# Altium schematic symbol library SCH - MCU - SI LABS - SI LABS EFM32WG280F128 100-PIN QFP 14X14.SchLib: 1 symbol
Pins are listed as number, name and electrical type; pins without a type are passive.

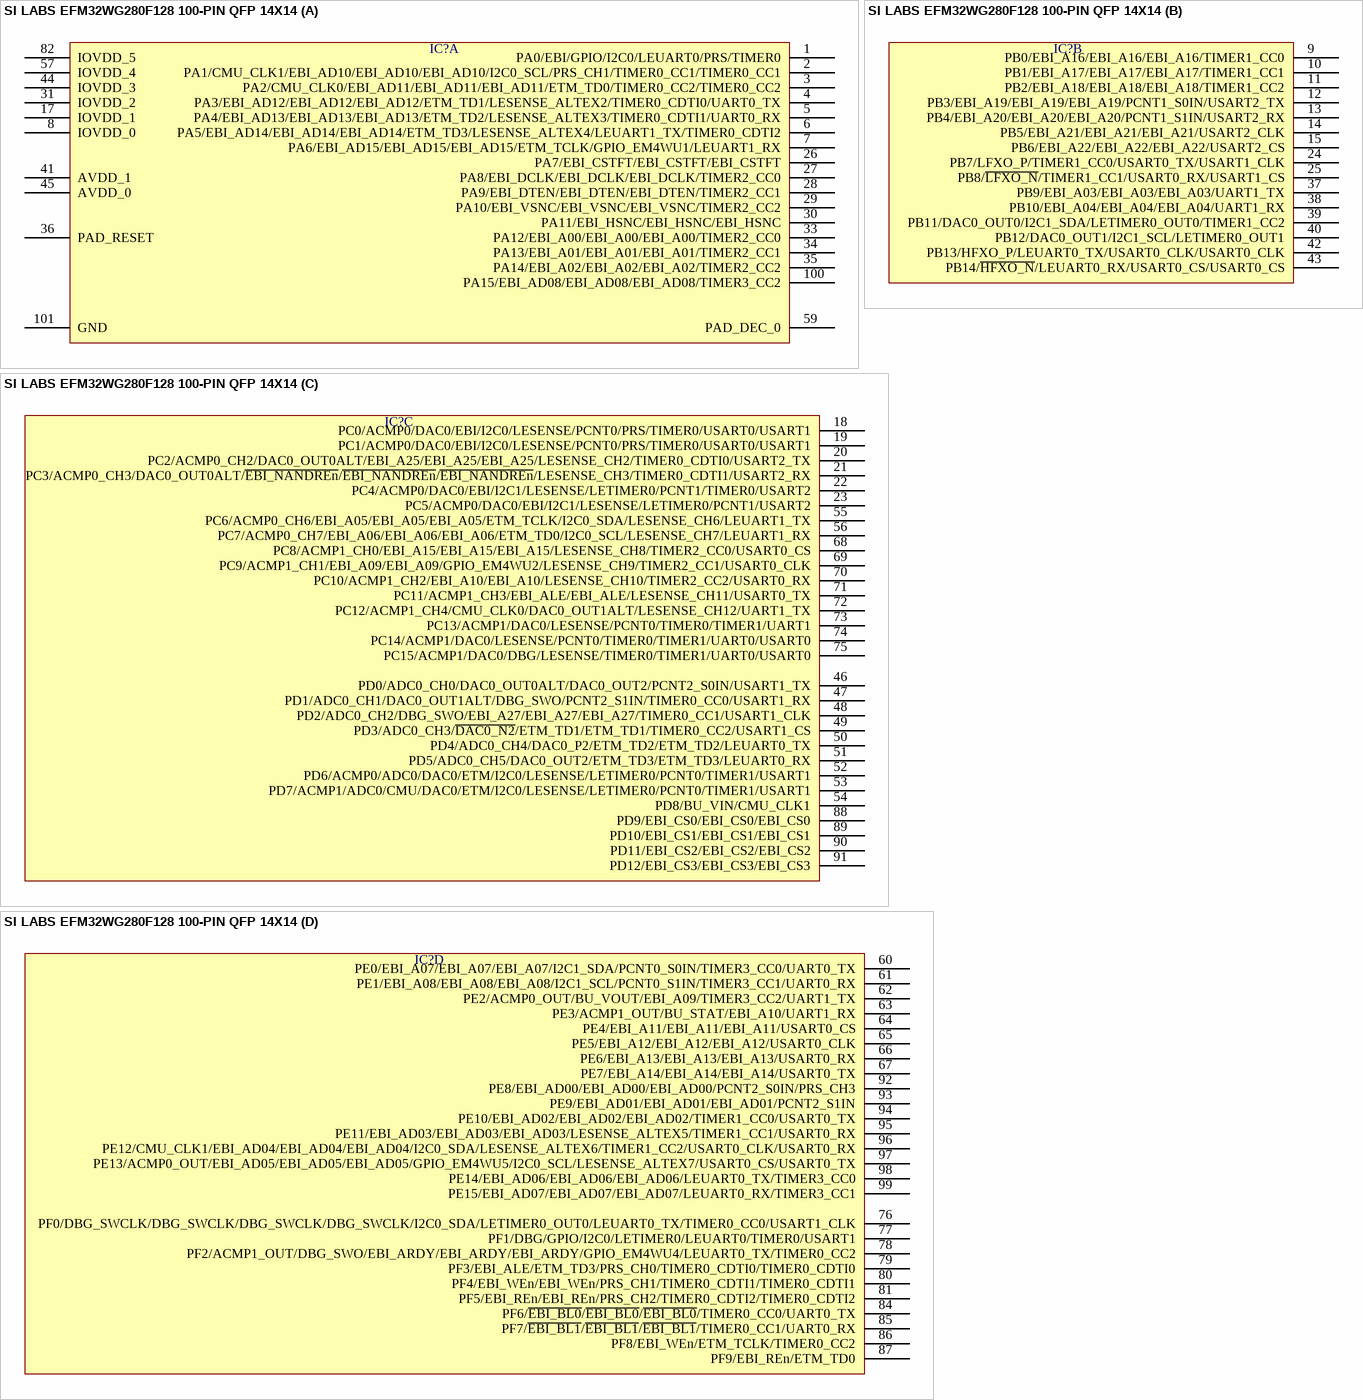
[diagram p0: symbol SI LABS EFM32WG280F128 100-PIN QFP 14X14]

## SI LABS EFM32WG280F128 100-PIN QFP 14X14
designator IC?  (value not drawn)
part A pins: 1 PA0/EBI/GPIO/I2C0/LEUART0/PRS/TIMER0, 2 PA1/CMU_CLK1/EBI_AD10/EBI_AD10/EBI_AD10/I2C0_SCL/PRS_CH1/TIMER0_CC1/TIMER0_CC1, 3 PA2/CMU_CLK0/EBI_AD11/EBI_AD11/EBI_AD11/ETM_TD0/TIMER0_CC2/TIMER0_CC2, 4 PA3/EBI_AD12/EBI_AD12/EBI_AD12/ETM_TD1/LESENSE_ALTEX2/TIMER0_CDTI0/UART0_TX, 5 PA4/EBI_AD13/EBI_AD13/EBI_AD13/ETM_TD2/LESENSE_ALTEX3/TIMER0_CDTI1/UART0_RX, 6 PA5/EBI_AD14/EBI_AD14/EBI_AD14/ETM_TD3/LESENSE_ALTEX4/LEUART1_TX/TIMER0_CDTI2, 7 PA6/EBI_AD15/EBI_AD15/EBI_AD15/ETM_TCLK/GPIO_EM4WU1/LEUART1_RX, 8 IOVDD_0, 17 IOVDD_1, 26 PA7/EBI_CSTFT/EBI_CSTFT/EBI_CSTFT, 27 PA8/EBI_DCLK/EBI_DCLK/EBI_DCLK/TIMER2_CC0, 28 PA9/EBI_DTEN/EBI_DTEN/EBI_DTEN/TIMER2_CC1, 29 PA10/EBI_VSNC/EBI_VSNC/EBI_VSNC/TIMER2_CC2, 30 PA11/EBI_HSNC/EBI_HSNC/EBI_HSNC, 31 IOVDD_2, 33 PA12/EBI_A00/EBI_A00/EBI_A00/TIMER2_CC0, 34 PA13/EBI_A01/EBI_A01/EBI_A01/TIMER2_CC1, 35 PA14/EBI_A02/EBI_A02/EBI_A02/TIMER2_CC2, 36 PAD_RESET, 41 AVDD_1, 44 IOVDD_3, 45 AVDD_0, 57 IOVDD_4, 59 PAD_DEC_0, 82 IOVDD_5, 100 PA15/EBI_AD08/EBI_AD08/EBI_AD08/TIMER3_CC2, 101 GND
part B pins: 9 PB0/EBI_A16/EBI_A16/EBI_A16/TIMER1_CC0, 10 PB1/EBI_A17/EBI_A17/EBI_A17/TIMER1_CC1, 11 PB2/EBI_A18/EBI_A18/EBI_A18/TIMER1_CC2, 12 PB3/EBI_A19/EBI_A19/EBI_A19/PCNT1_S0IN/USART2_TX, 13 PB4/EBI_A20/EBI_A20/EBI_A20/PCNT1_S1IN/USART2_RX, 14 PB5/EBI_A21/EBI_A21/EBI_A21/USART2_CLK, 15 PB6/EBI_A22/EBI_A22/EBI_A22/USART2_CS, 24 PB7/LFXO_P/TIMER1_CC0/USART0_TX/USART1_CLK, 25 PB8/~{LFXO_N}/TIMER1_CC1/USART0_RX/USART1_CS, 37 PB9/EBI_A03/EBI_A03/EBI_A03/UART1_TX, 38 PB10/EBI_A04/EBI_A04/EBI_A04/UART1_RX, 39 PB11/DAC0_OUT0/I2C1_SDA/LETIMER0_OUT0/TIMER1_CC2, 40 PB12/DAC0_OUT1/I2C1_SCL/LETIMER0_OUT1, 42 PB13/HFXO_P/LEUART0_TX/USART0_CLK/USART0_CLK, 43 PB14/~{HFXO_N}/LEUART0_RX/USART0_CS/USART0_CS
part C pins: 18 PC0/ACMP0/DAC0/EBI/I2C0/LESENSE/PCNT0/PRS/TIMER0/USART0/USART1, 19 PC1/ACMP0/DAC0/EBI/I2C0/LESENSE/PCNT0/PRS/TIMER0/USART0/USART1, 20 PC2/ACMP0_CH2/DAC0_OUT0ALT/EBI_A25/EBI_A25/EBI_A25/LESENSE_CH2/TIMER0_CDTI0/USART2_TX, 21 PC3/ACMP0_CH3/DAC0_OUT0ALT/~{EBI_NANDREn}/~{EBI_NANDREn}/~{EBI_NANDREn}/LESENSE_CH3/TIMER0_CDTI1/USART2_RX, 22 PC4/ACMP0/DAC0/EBI/I2C1/LESENSE/LETIMER0/PCNT1/TIMER0/USART2, 23 PC5/ACMP0/DAC0/EBI/I2C1/LESENSE/LETIMER0/PCNT1/USART2, 46 PD0/ADC0_CH0/DAC0_OUT0ALT/DAC0_OUT2/PCNT2_S0IN/USART1_TX, 47 PD1/ADC0_CH1/DAC0_OUT1ALT/DBG_SWO/PCNT2_S1IN/TIMER0_CC0/USART1_RX, 48 PD2/ADC0_CH2/DBG_SWO/EBI_A27/EBI_A27/EBI_A27/TIMER0_CC1/USART1_CLK, 49 PD3/ADC0_CH3/~{DAC0_N2}/ETM_TD1/ETM_TD1/TIMER0_CC2/USART1_CS, 50 PD4/ADC0_CH4/DAC0_P2/ETM_TD2/ETM_TD2/LEUART0_TX, 51 PD5/ADC0_CH5/DAC0_OUT2/ETM_TD3/ETM_TD3/LEUART0_RX, 52 PD6/ACMP0/ADC0/DAC0/ETM/I2C0/LESENSE/LETIMER0/PCNT0/TIMER1/USART1, 53 PD7/ACMP1/ADC0/CMU/DAC0/ETM/I2C0/LESENSE/LETIMER0/PCNT0/TIMER1/USART1, 54 PD8/BU_VIN/CMU_CLK1, 55 PC6/ACMP0_CH6/EBI_A05/EBI_A05/EBI_A05/ETM_TCLK/I2C0_SDA/LESENSE_CH6/LEUART1_TX, 56 PC7/ACMP0_CH7/EBI_A06/EBI_A06/EBI_A06/ETM_TD0/I2C0_SCL/LESENSE_CH7/LEUART1_RX, 68 PC8/ACMP1_CH0/EBI_A15/EBI_A15/EBI_A15/LESENSE_CH8/TIMER2_CC0/USART0_CS, 69 PC9/ACMP1_CH1/EBI_A09/EBI_A09/GPIO_EM4WU2/LESENSE_CH9/TIMER2_CC1/USART0_CLK, 70 PC10/ACMP1_CH2/EBI_A10/EBI_A10/LESENSE_CH10/TIMER2_CC2/USART0_RX, 71 PC11/ACMP1_CH3/EBI_ALE/EBI_ALE/LESENSE_CH11/USART0_TX, 72 PC12/ACMP1_CH4/CMU_CLK0/DAC0_OUT1ALT/LESENSE_CH12/UART1_TX, 73 PC13/ACMP1/DAC0/LESENSE/PCNT0/TIMER0/TIMER1/UART1, 74 PC14/ACMP1/DAC0/LESENSE/PCNT0/TIMER0/TIMER1/UART0/USART0, 75 PC15/ACMP1/DAC0/DBG/LESENSE/TIMER0/TIMER1/UART0/USART0, 88 PD9/EBI_CS0/EBI_CS0/EBI_CS0, 89 PD10/EBI_CS1/EBI_CS1/EBI_CS1, 90 PD11/EBI_CS2/EBI_CS2/EBI_CS2, 91 PD12/EBI_CS3/EBI_CS3/EBI_CS3
part D pins: 60 PE0/EBI_A07/EBI_A07/EBI_A07/I2C1_SDA/PCNT0_S0IN/TIMER3_CC0/UART0_TX, 61 PE1/EBI_A08/EBI_A08/EBI_A08/I2C1_SCL/PCNT0_S1IN/TIMER3_CC1/UART0_RX, 62 PE2/ACMP0_OUT/BU_VOUT/EBI_A09/TIMER3_CC2/UART1_TX, 63 PE3/ACMP1_OUT/BU_STAT/EBI_A10/UART1_RX, 64 PE4/EBI_A11/EBI_A11/EBI_A11/USART0_CS, 65 PE5/EBI_A12/EBI_A12/EBI_A12/USART0_CLK, 66 PE6/EBI_A13/EBI_A13/EBI_A13/USART0_RX, 67 PE7/EBI_A14/EBI_A14/EBI_A14/USART0_TX, 76 PF0/DBG_SWCLK/DBG_SWCLK/DBG_SWCLK/DBG_SWCLK/I2C0_SDA/LETIMER0_OUT0/LEUART0_TX/TIMER0_CC0/USART1_CLK, 77 PF1/DBG/GPIO/I2C0/LETIMER0/LEUART0/TIMER0/USART1, 78 PF2/ACMP1_OUT/DBG_SWO/EBI_ARDY/EBI_ARDY/EBI_ARDY/GPIO_EM4WU4/LEUART0_TX/TIMER0_CC2, 79 PF3/EBI_ALE/ETM_TD3/PRS_CH0/TIMER0_CDTI0/TIMER0_CDTI0, 80 PF4/EBI_WEn/EBI_WEn/PRS_CH1/TIMER0_CDTI1/TIMER0_CDTI1, 81 PF5/EBI_REn/EBI_REn/PRS_CH2/TIMER0_CDTI2/TIMER0_CDTI2, 84 PF6/~{EBI_BL0}/~{EBI_BL0}/~{EBI_BL0}/TIMER0_CC0/UART0_TX, 85 PF7/~{EBI_BL1}/~{EBI_BL1}/~{EBI_BL1}/TIMER0_CC1/UART0_RX, 86 PF8/EBI_WEn/ETM_TCLK/TIMER0_CC2, 87 PF9/EBI_REn/ETM_TD0, 92 PE8/EBI_AD00/EBI_AD00/EBI_AD00/PCNT2_S0IN/PRS_CH3, 93 PE9/EBI_AD01/EBI_AD01/EBI_AD01/PCNT2_S1IN, 94 PE10/EBI_AD02/EBI_AD02/EBI_AD02/TIMER1_CC0/USART0_TX, 95 PE11/EBI_AD03/EBI_AD03/EBI_AD03/LESENSE_ALTEX5/TIMER1_CC1/USART0_RX, 96 PE12/CMU_CLK1/EBI_AD04/EBI_AD04/EBI_AD04/I2C0_SDA/LESENSE_ALTEX6/TIMER1_CC2/USART0_CLK/USART0_RX, 97 PE13/ACMP0_OUT/EBI_AD05/EBI_AD05/EBI_AD05/GPIO_EM4WU5/I2C0_SCL/LESENSE_ALTEX7/USART0_CS/USART0_TX, 98 PE14/EBI_AD06/EBI_AD06/EBI_AD06/LEUART0_TX/TIMER3_CC0, 99 PE15/EBI_AD07/EBI_AD07/EBI_AD07/LEUART0_RX/TIMER3_CC1